# Altium schematic symbol library 2015-08-14_11-23-54.SchLib: 17 symbols
Pins are listed as number, name and electrical type; pins without a type are passive.

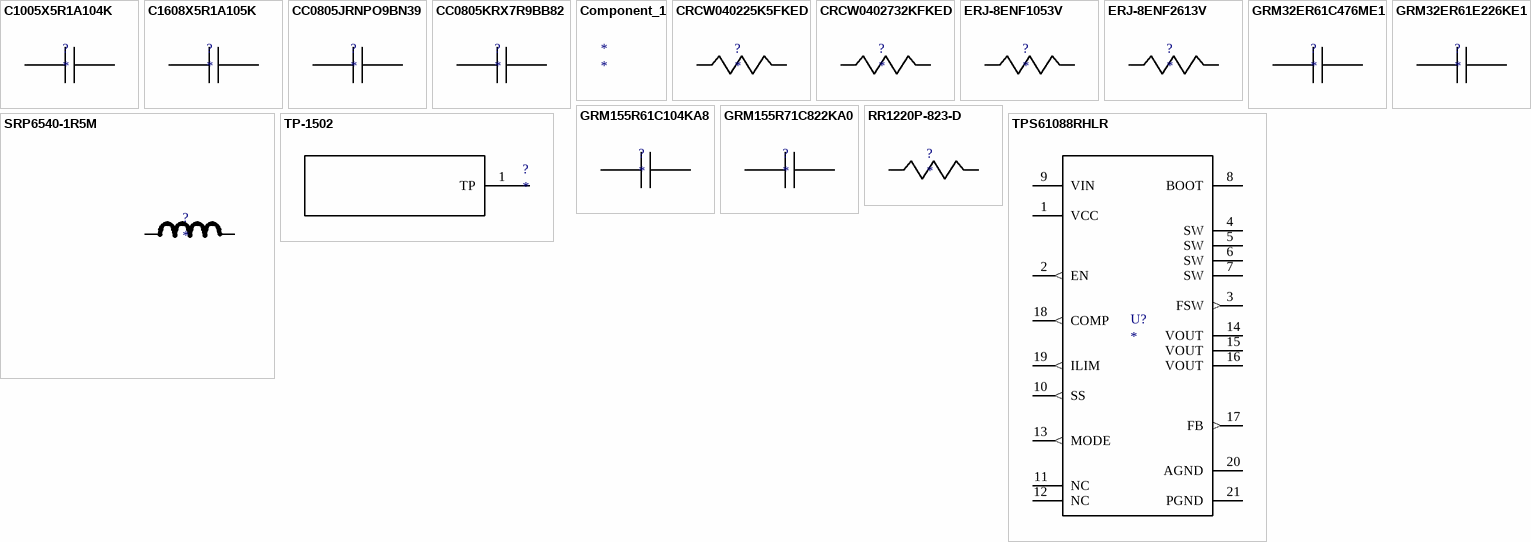
[diagram p0: symbols C1005X5R1A104K to TPS61088RHLR]

## C1005X5R1A104K
designator ?
Imported; Manufacturer_Part_Number: C1005X5R1A104K; Vendor: TDK; RefDes: RefDes; TYPE: TYPE; Value: Value
footprint 1005
pins: 1, 2

## C1608X5R1A105K
designator ?
Imported; Manufacturer_Part_Number: C1608X5R1A105K; Vendor: TDK; RefDes: RefDes; TYPE: TYPE; Value: Value
footprint 1608
pins: 1, 2

## CC0805JRNPO9BN39
designator ?
Imported; Manufacturer_Part_Number: CC0805JRNPO9BN390; Vendor: Yageo America; RefDes: RefDes; TYPE: TYPE; Value: Value
footprint 0805
pins: 1, 2

## CC0805KRX7R9BB82
designator ?
Imported; Manufacturer_Part_Number: CC0805KRX7R9BB821; Vendor: Yageo America; RefDes: RefDes; TYPE: TYPE; Value: Value
footprint 0805
pins: 1, 2

## Component_1
designator *

## CRCW040225K5FKED
designator ?
Imported; Manufacturer_Part_Number: CRCW040225K5FKED; Vendor: Vishay-Dale; RefDes: RefDes; TYPE: TYPE; Value: Value
footprint 0402
pins: 1, 2

## CRCW0402732KFKED
designator ?
Imported; Manufacturer_Part_Number: CRCW0402732KFKED; Vendor: Vishay-Dale; RefDes: RefDes; TYPE: TYPE; Value: Value
footprint 0402
pins: 1, 2

## ERJ-8ENF1053V
designator ?
Imported; Manufacturer_Part_Number: ERJ-8ENF1053V; Vendor: Panasonic; RefDes: RefDes; TYPE: TYPE; Value: Value
footprint 1206
pins: 1, 2

## ERJ-8ENF2613V
designator ?
Imported; Manufacturer_Part_Number: ERJ-8ENF2613V; Vendor: Panasonic; RefDes: RefDes; TYPE: TYPE; Value: Value
footprint 1206
pins: 1, 2

## GRM32ER61C476ME1
designator ?
Imported; Manufacturer_Part_Number: GRM32ER61C476ME15L; Vendor: MuRata; RefDes: RefDes; TYPE: TYPE; Value: Value
footprint 1210
pins: 1, 2

## GRM32ER61E226KE1
designator ?
Imported; Manufacturer_Part_Number: GRM32ER61E226KE15L; Vendor: MuRata; RefDes: RefDes; TYPE: TYPE; Value: Value
footprint 1210
pins: 1, 2

## GRM155R61C104KA8
designator ?
Imported; Manufacturer_Part_Number: GRM155R61C104KA88D; Vendor: MuRata; RefDes: RefDes; TYPE: TYPE; Value: Value
footprint 0402
pins: 1, 2

## GRM155R71C822KA0
designator ?
Imported; Manufacturer_Part_Number: GRM155R71C822KA01D; Vendor: MuRata; RefDes: RefDes; TYPE: TYPE; Value: Value
footprint 0402
pins: 1, 2

## RR1220P-823-D
designator ?
Imported; Manufacturer_Part_Number: RR1220P-823-D; Vendor: Susumu Co Ltd; RefDes: RefDes; TYPE: TYPE; Value: Value
footprint 0805
pins: 1, 2

## SRP6540-1R5M
designator ?
Imported; Manufacturer_Part_Number: SRP6540-1R5M; Vendor: Bourns; DESCRIPTION: Unknown; PACKAGE_DESIGNATOR: SRP6540; Manufacturer: Bourns; RefDes: RefDes; TYPE: TYPE; Value: Value
footprint SRP6540
pins: 1, 2

## TP-1502
designator ?
Imported; RefDes: RefDes; Type: Type; Value: Value
footprint TP-1502
pins: 1 TP

## TPS61088RHLR
designator U?
Imported; PartNumber: TPS61088RHLR; Alternate PartNumber: TPS61088RHLT; Manufacturer: Texas Instruments; CompType: IC; PIN_COUNT: 21; Application_BuildNumber: *; PackageReference: RHL0020A; MountType: SMT; RoHS: Y; RefDes: RefDes; TYPE: TYPE; Value: Value
footprint RHL0020A
pins: 1 VCC (power), 2 EN (out), 3 FSW (out), 4 SW (power), 5 SW (power), 6 SW (power), 7 SW (power), 8 BOOT (power), 9 VIN (power), 10 SS (out), 11 NC, 12 NC, 13 MODE (out), 14 VOUT (power), 15 VOUT (power), 16 VOUT (power), 17 FB (out), 18 COMP (out), 19 ILIM (out), 20 AGND (power), 21 PGND (power)